# EAGLE library part DF40-90 (library kmod-connectors)
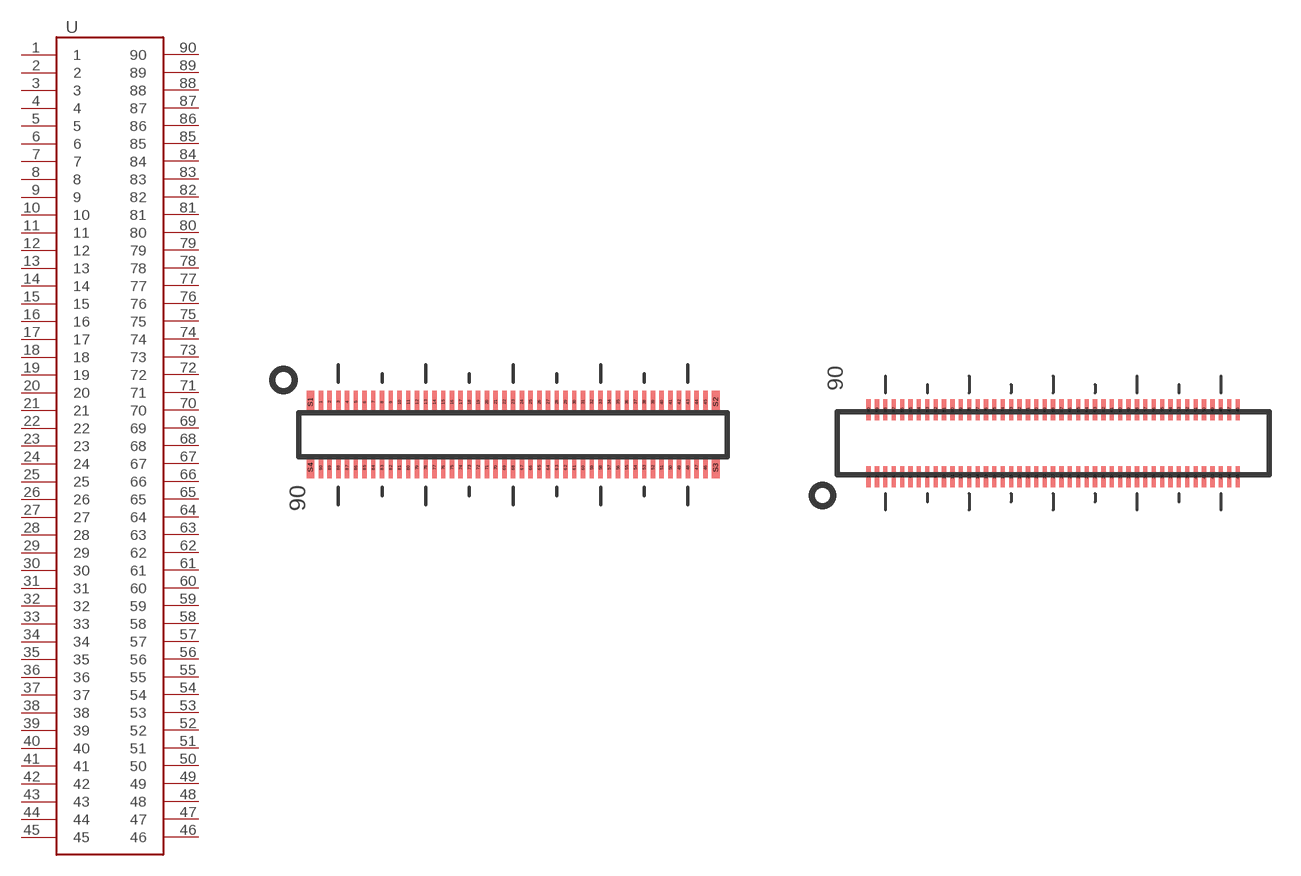
[diagram p10: symbol with the pads of DF40-HDR-90; footprints DF40-HDR-90, DF40-RCP-90]

Designator prefix -

## DF40-90HDR  [DF40-HDR-90]
1  1
2  2
3  3
4  4
5  5
6  6
7  7
8  8
9  9
10  10
11  11
12  12
13  13
14  14
15  15
16  16
17  17
18  18
19  19
20  20
21  21
22  22
23  23
24  24
25  25
26  26
27  27
28  28
29  29
30  30
31  31
32  32
33  33
34  34
35  35
36  36
37  37
38  38
39  39
40  40
41  41
42  42
43  43
44  44
45  45
46  46
47  47
48  48
49  49
50  50
51  51
52  52
53  53
54  54
55  55
56  56
57  57
58  58
59  59
60  60
61  61
62  62
63  63
64  64
65  65
66  66
67  67
68  68
69  69
70  70
71  71
72  72
73  73
74  74
75  75
76  76
77  77
78  78
79  79
80  80
81  81
82  82
83  83
84  84
85  85
86  86
87  87
88  88
89  89
90  90

## DF40-90RCP  [DF40-RCP-90]
Pads as for DF40-HDR-90

## Footprint DF40-HDR-90 (pad centres in mm)
Hirose DF40 90-pin header From http://www.hirose.co.jp/cataloge_hp/ed_DF40_20140305.pdf Changes: lengthened pads, thinned pads Untested!
smd 0.2 x 1: 1 -8.8,1.5; 2 -8.4,1.5; 3 -8,1.5; 4 -7.6,1.5; 5 -7.2,1.5; 6 -6.8,1.5; 7 -6.4,1.5; 8 -6,1.5; 9 -5.6,1.5; 10 -5.2,1.5; 11 -4.8,1.5; 12 -4.4,1.5; 13 -4,1.5; 14 -3.6,1.5; 15 -3.2,1.5; 16 -2.8,1.5; 17 -2.4,1.5; 18 -2,1.5; 19 -1.6,1.5; 20 -1.2,1.5; 21 -0.8,1.5; 22 -0.4,1.5; 23 0,1.5; 24 0.4,1.5; 25 0.8,1.5; 26 1.2,1.5; 27 1.6,1.5; 28 2,1.5; 29 2.4,1.5; 30 2.8,1.5; 31 3.2,1.5; 32 3.6,1.5; 33 4,1.5; 34 4.4,1.5; 35 4.8,1.5; 36 5.2,1.5; 37 5.6,1.5; 38 6,1.5; 39 6.4,1.5; 40 6.8,1.5; 41 7.2,1.5; 42 7.6,1.5; 43 8,1.5; 44 8.4,1.5; 45 8.8,1.5; 46 8.8,-1.5; 47 8.4,-1.5; 48 8,-1.5; 49 7.6,-1.5; 50 7.2,-1.5; 51 6.8,-1.5; 52 6.4,-1.5; 53 6,-1.5; 54 5.6,-1.5; 55 5.2,-1.5; 56 4.8,-1.5; 57 4.4,-1.5; 58 4,-1.5; 59 3.6,-1.5; 60 3.2,-1.5; 61 2.8,-1.5; 62 2.4,-1.5; 63 2,-1.5; 64 1.6,-1.5; 65 1.2,-1.5; 66 0.8,-1.5; 67 0.4,-1.5; 68 0,-1.5; 69 -0.4,-1.5; 70 -0.8,-1.5; 71 -1.2,-1.5; 72 -1.6,-1.5; 73 -2,-1.5; 74 -2.4,-1.5; 75 -2.8,-1.5; 76 -3.2,-1.5; 77 -3.6,-1.5; 78 -4,-1.5; 79 -4.4,-1.5; 80 -4.8,-1.5; 81 -5.2,-1.5; 82 -5.6,-1.5; 83 -6,-1.5; 84 -6.4,-1.5; 85 -6.8,-1.5; 86 -7.2,-1.5; 87 -7.6,-1.5; 88 -8,-1.5; 89 -8.4,-1.5; 90 -8.8,-1.5
smd 0.35 x 1: S1 -9.275,1.5; S2 9.275,1.5; S3 9.275,-1.5; S4 -9.275,-1.5

## Footprint DF40-RCP-90 (pad centres in mm)
Hirose DF40 90-pin receptacle From http://www.hirose.co.jp/cataloge_hp/ed_DF40_20140305.pdf Untested!
smd 0.2 x 1: 1 -8.8,-1.6; 2 -8.4,-1.6; 3 -8,-1.6; 4 -7.6,-1.6; 5 -7.2,-1.6; 6 -6.8,-1.6; 7 -6.4,-1.6; 8 -6,-1.6; 9 -5.6,-1.6; 10 -5.2,-1.6; 11 -4.8,-1.6; 12 -4.4,-1.6; 13 -4,-1.6; 14 -3.6,-1.6; 15 -3.2,-1.6; 16 -2.8,-1.6; 17 -2.4,-1.6; 18 -2,-1.6; 19 -1.6,-1.6; 20 -1.2,-1.6; 21 -0.8,-1.6; 22 -0.4,-1.6; 23 0,-1.6; 24 0.4,-1.6; 25 0.8,-1.6; 26 1.2,-1.6; 27 1.6,-1.6; 28 2,-1.6; 29 2.4,-1.6; 30 2.8,-1.6; 31 3.2,-1.6; 32 3.6,-1.6; 33 4,-1.6; 34 4.4,-1.6; 35 4.8,-1.6; 36 5.2,-1.6; 37 5.6,-1.6; 38 6,-1.6; 39 6.4,-1.6; 40 6.8,-1.6; 41 7.2,-1.6; 42 7.6,-1.6; 43 8,-1.6; 44 8.4,-1.6; 45 8.8,-1.6; 46 8.8,1.6; 47 8.4,1.6; 48 8,1.6; 49 7.6,1.6; 50 7.2,1.6; 51 6.8,1.6; 52 6.4,1.6; 53 6,1.6; 54 5.6,1.6; 55 5.2,1.6; 56 4.8,1.6; 57 4.4,1.6; 58 4,1.6; 59 3.6,1.6; 60 3.2,1.6; 61 2.8,1.6; 62 2.4,1.6; 63 2,1.6; 64 1.6,1.6; 65 1.2,1.6; 66 0.8,1.6; 67 0.4,1.6; 68 0,1.6; 69 -0.4,1.6; 70 -0.8,1.6; 71 -1.2,1.6; 72 -1.6,1.6; 73 -2,1.6; 74 -2.4,1.6; 75 -2.8,1.6; 76 -3.2,1.6; 77 -3.6,1.6; 78 -4,1.6; 79 -4.4,1.6; 80 -4.8,1.6; 81 -5.2,1.6; 82 -5.6,1.6; 83 -6,1.6; 84 -6.4,1.6; 85 -6.8,1.6; 86 -7.2,1.6; 87 -7.6,1.6; 88 -8,1.6; 89 -8.4,1.6; 90 -8.8,1.6